# Altium schematic symbol library CH443K.SchLib: 1 symbol
Pins are listed as number, name and electrical type; pins without a type are passive.

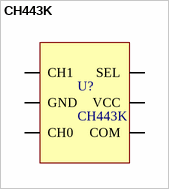
[diagram p0: symbol CH443K]

## CH443K
designator U?
pins: 1 CH1, 2 GND, 3 CH0, 4 COM, 5 VCC, 6 SEL